# Altium footprint library PcbLib1.PcbLib: 2 footprints
Each footprint in its own frame and in the unit in brackets; x right, y up, seen from the top. Pads: shape width x height; smd on the part's side, far side on the other; paste and mask are expansions set on the pad; w line width, h text height; cw(c..) or ccw(c..) is an arc to the next point about the centre after c.
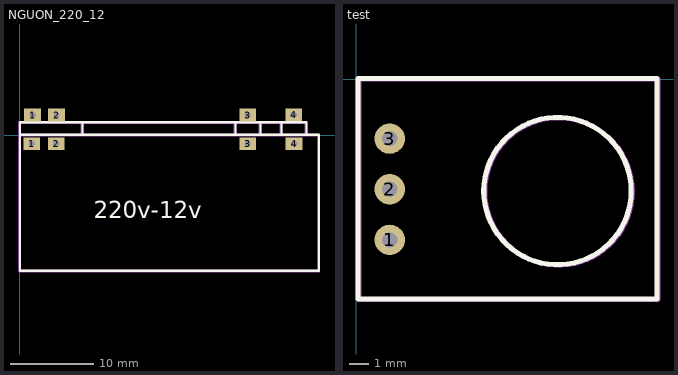
[diagram p0: the footprints below, top view; thin cyan lines are the x and y axes]

## NGUON_220_12 [mil]
pads (8):
  rect 78.74x60 hole 30: 1(56,-39) 1(60,96) 2(172,-40) 2(173,96) 3(1075,-39) 3(1075,96) 4(1291,97) 4(1293,-40)
Top Overlay:
  lines w10: 1,3.73 1,-638 1410.45,-638 1410.45,3 1,3 1,62.06 296.28,62.06 ; 296.28,6.28 296.28,62.06 ; 1016.75,4.25 1016.75,62.06 ; 1134.86,4.14 1134.86,62.06 ; 1233.28,3.28 1233.28,62.06 ; 1351.39,6.39 1351.39,62.06 1233.28,62.06 ; 296.28,62.06 1016.75,62.06 ; 1016.75,62.06 1134.86,62.06 ; 1134.86,62.06 1233.28,62.06
  text "220v-12v" at 348,-390 h78.74
Mechanical 1:
  lines w10: -4,3.73 -4,-638 1405.45,-638 1405.45,3 -4,3 -4,62.06 291.28,62.06 ; 1,-0.27 1,-642 1410.45,-642 1410.45,-1 1,-1 1,58.06 296.28,58.06 ; 291.28,6.28 291.28,62.06 ; 296.28,2.28 296.28,58.06 ; 1011.75,4.25 1011.75,62.06 ; 1016.75,0.25 1016.75,58.06 ; 1129.86,4.14 1129.86,62.06 ; 1134.86,0.14 1134.86,58.06 ; 1228.28,3.28 1228.28,62.06 ; 1233.28,-0.72 1233.28,58.06 ; 1346.39,6.39 1346.39,62.06 1228.28,62.06 ; 1351.39,2.39 1351.39,58.06 1233.28,58.06 ; 291.28,62.06 1011.75,62.06 ; 296.28,58.06 1016.75,58.06 ; 1011.75,62.06 1129.86,62.06 ; 1016.75,58.06 1134.86,58.06 ; 1129.86,62.06 1228.28,62.06 ; 1134.86,58.06 1233.28,58.06
  text "220v-12v" at 343,-390 h78.74
  text "220v-12v" at 348,-394 h78.74

## test [mil]
pads (3):
  round 60 hole 30: 1(65.63,-317.5) 2(65.63,-217.5) 3(65.63,-117.5)
Top Overlay:
  circle w10: c397,-221 r145.65
  lines w10: 3,-434 3,1 593.55,1 593.55,-434 3,-434
Mechanical 1:
  circle w10: c399,-222 r145.65
  lines w10: 5,-435 5,0 595.55,0 595.55,-435 5,-435